# Altium schematic symbol library Component_Lib.SchLib: 12 symbols
Pins are listed as number, name and electrical type; pins without a type are passive.

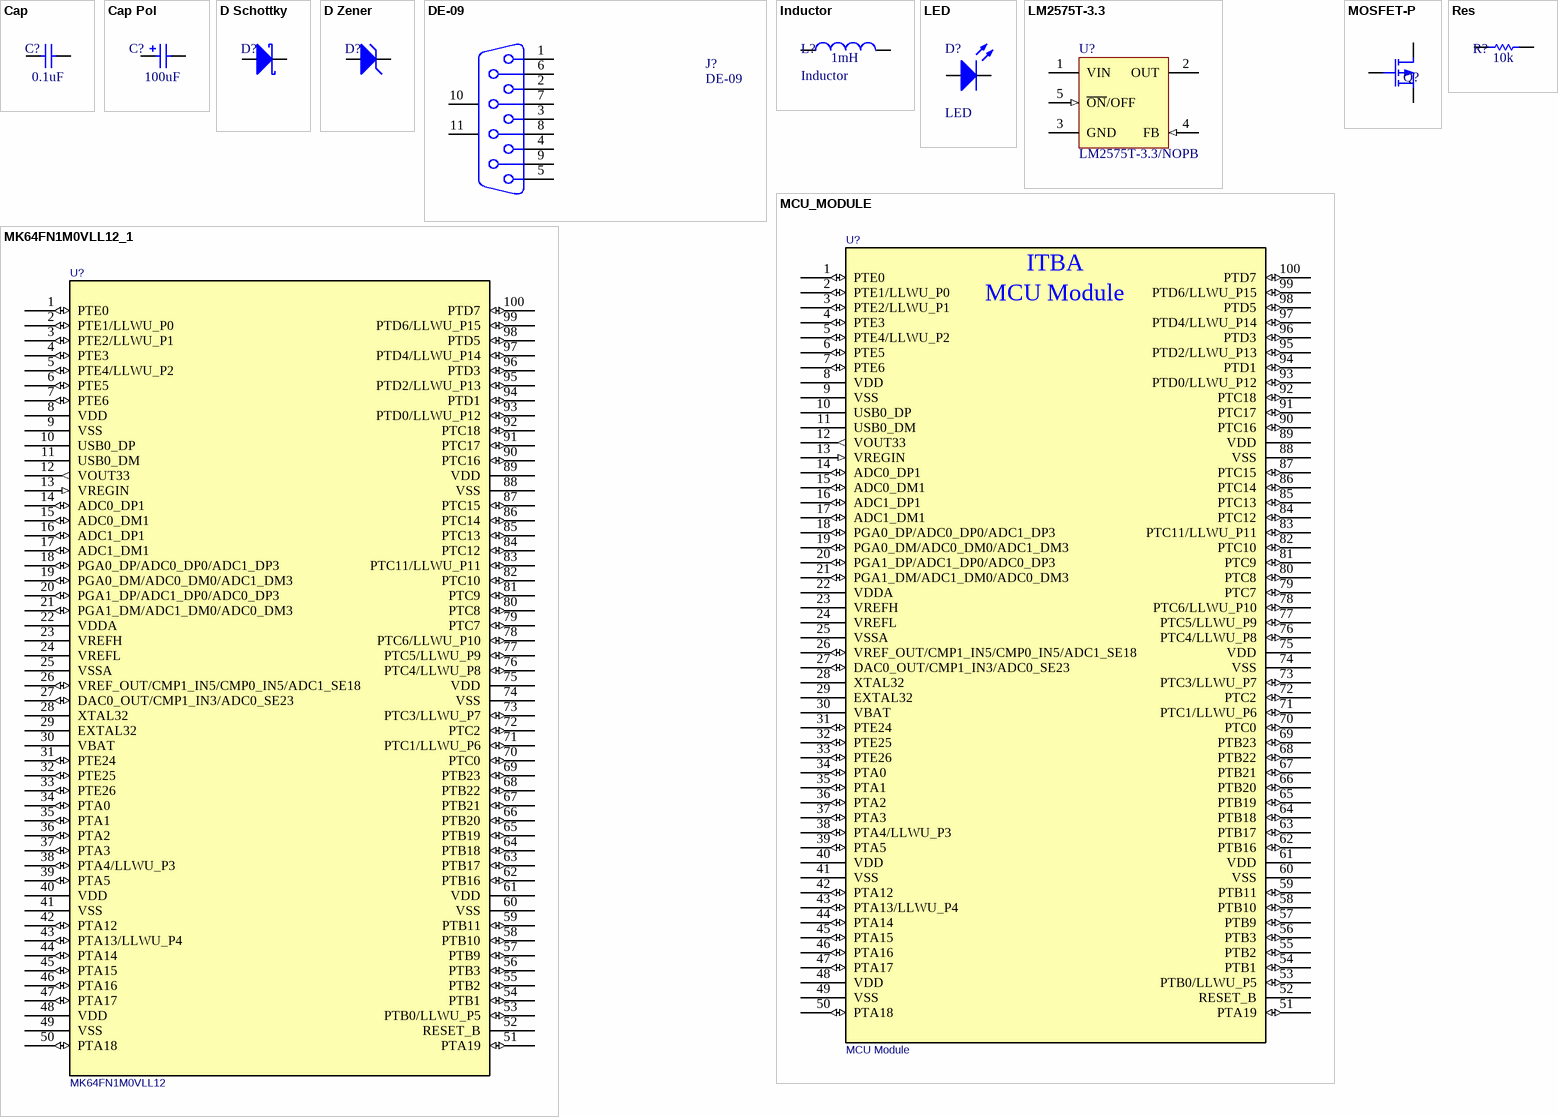
[diagram p0: symbols Cap to Res]

## Cap
designator C?  value 0.1uF  (hidden comment: Cap)
Capacitor; Published: 8-Jun-2000; LatestRevisionDate: 17-Jul-2002; LatestRevisionNote: Re-released for DXP Platform.; PackageReference: RAD-0.3; Publisher: Altium Limited; PackageDescription: Radial Cap, Thru-Hole; 2 Leads; 0.3 in Pin Spacing
footprint 0805 (Pasivo 0805)
simulation model CAP (Capacitor)
signal-integrity model Cap
pins: 1, 2

## Cap Pol
designator C?, comment value 100uF  (hidden comment: Cap)
Polarized Capacitor (Radial); Published: 8-Jun-2000; LatestRevisionDate: 17-Jul-2002; LatestRevisionNote: Re-released for DXP Platform.; PackageReference: RB7.6-15; Publisher: Altium Limited; PackageDescription: Polarized Capacitor (Radial); 2 Leads
simulation model CAP (Capacitor)
signal-integrity model Cap Pol
pins: 1, 2
1 alternate drawing of the same symbol

## D Schottky
designator D?
Schottky Diode; Published: 8-Jun-2000; LatestRevisionDate: 17-Jul-2002; LatestRevisionNote: Re-released for DXP Platform.; PackageReference: SMB; Publisher: Altium Limited; PackageDescription: DO-214-AA/SMB; 2 C-Bend Leads; Body 5.3 x 3.6 mm, inc. leads (LxW); Code_JEDEC: DO-214-AA
simulation model SKYDIODE (Diode)
signal-integrity model D Schottky
pins: 1 A, 2 K

## D Zener
designator D?
Zener Diode; Published: 8-Jun-2000; LatestRevisionDate: 17-Jul-2002; LatestRevisionNote: Re-released for DXP Platform.; PackageReference: DIODE-0.7; Publisher: Altium Limited; PackageDescription: Diode, Thru-Hole; 2 Leads; 0.7 in Pin Spacing
simulation model ZENER (Diode)
signal-integrity model D Zener
pins: 1 A, 2 K

## DE-09
designator J?
Receptacle Assembly, 9 Position, Right Angle; PackageDocument: O; Positions: 9; Published: 15-Jun-2001; LatestRevisionDate: 17-Jul-2002; LatestRevisionNote: Re-released for DXP Platform.; DatasheetDocument: 1-Sep-1999; PackageReference: 788750; Publisher: Altium Limited; Orientation: Right Angle; Gender: Receptacle
signal-integrity model Connector
pins: 1, 2, 3, 4, 5, 6, 7, 8, 9, 10 MH1, 11 MH2

## Inductor
designator L?  value 1mH
Code_IEC: 1005; Published: 8-Jun-2000; LatestRevisionDate: 29-May-2009; LatestRevisionNote: IPC-7351 Footprint Added.; PackageReference: 0402-A; Publisher: Altium Limited; PackageDescription: Chip Inductor; Code_JEITA: 0402
simulation model INDUCTOR (Inductor)
signal-integrity model Inductor
pins: 1, 2

## LED
designator D?
Published: 8-Jun-2000; LatestRevisionDate: 08-Jul-2005; LatestRevisionNote: Mech Layer 1 removed.; PackageReference: LED-0; Publisher: Altium Limited; PackageDescription: LED; 2 Leads
footprint LED0805 (LED SMD 0805)
simulation model LED0 (Diode)
pins: 1 A, 2 K

## LM2575T-3.3
designator U?, comment LM2575T-3.3/NOPB
SIMPLE SWITCHER® 1A Step-Down Voltage Regulator, 5-pin TO-220, Pb-Free; Manufacturer: Texas Instruments; Manufacturer: TI National Semiconductor; PackageTopMarking: NSUZXYTTE#*LM2575T*-3.3 P+; PowerWise: N; PackageReference: KC0005A; PinCount: 5; CompType: Switcher; Code_JEDEC: TO-220-AB; RoHS: Y; ComponentLink1URL: http://www.ti.com/general/docs/lit/getliterature.tsp?genericPartNumber=LM2575-N&fileType=pdf; PackageDescription: TO-220, Molded, 5 Lead, Straight; ComponentLink1Description: Datasheet URL; Manufacturer Part Number: LM2575T-3.3/NOPB
pins: 1 VIN (power), 2 OUT (power), 3 GND (power), 4 FB (in), 5 ~{ON}/OFF (in)

## MCU_MODULE
designator U?, comment MCU Module
ITBA Microcontroller module; FP_DESC: LQFP100; MFG: NXP; MFG_PN: MK64FN1M0VLL12; Footprint Checked: Assign OK, Footprint OK
footprint MCU_Module
pins: 1 PTE0 (io), 2 PTE1/LLWU_P0 (io), 3 PTE2/LLWU_P1 (io), 4 PTE3 (io), 5 PTE4/LLWU_P2 (io), 6 PTE5 (io), 7 PTE6 (io), 8 VDD (power), 9 VSS (power), 10 USB0_DP, 11 USB0_DM, 12 VOUT33 (out), 13 VREGIN (in), 14 ADC0_DP1 (io), 15 ADC0_DM1 (io), 16 ADC1_DP1 (io), 17 ADC1_DM1 (io), 18 PGA0_DP/ADC0_DP0/ADC1_DP3 (io), 19 PGA0_DM/ADC0_DM0/ADC1_DM3 (io), 20 PGA1_DP/ADC1_DP0/ADC0_DP3 (io), 21 PGA1_DM/ADC1_DM0/ADC0_DM3 (io), 22 VDDA (power), 23 VREFH (power), 24 VREFL (power), 25 VSSA (power), 26 VREF_OUT/CMP1_IN5/CMP0_IN5/ADC1_SE18 (io), 27 DAC0_OUT/CMP1_IN3/ADC0_SE23 (io), 28 XTAL32, 29 EXTAL32, 30 VBAT (power), 31 PTE24 (io), 32 PTE25 (io), 33 PTE26 (io), 34 PTA0 (io), 35 PTA1 (io), 36 PTA2 (io), 37 PTA3 (io), 38 PTA4/LLWU_P3 (io), 39 PTA5 (io), 40 VDD (power), 41 VSS (power), 42 PTA12 (io), 43 PTA13/LLWU_P4 (io), 44 PTA14 (io), 45 PTA15 (io), 46 PTA16 (io), 47 PTA17 (io), 48 VDD (power), 49 VSS (power), 50 PTA18 (io), 51 PTA19 (io), 52 RESET_B, 53 PTB0/LLWU_P5 (io), 54 PTB1 (io), 55 PTB2 (io), 56 PTB3 (io), 57 PTB9 (io), 58 PTB10 (io), 59 PTB11 (io), 60 VSS (power), 61 VDD (power), 62 PTB16 (io), 63 PTB17 (io), 64 PTB18 (io), 65 PTB19 (io), 66 PTB20 (io), 67 PTB21 (io), 68 PTB22 (io), 69 PTB23 (io), 70 PTC0 (io), 71 PTC1/LLWU_P6 (io), 72 PTC2 (io), 73 PTC3/LLWU_P7 (io), 74 VSS (power), 75 VDD (power), 76 PTC4/LLWU_P8 (io), 77 PTC5/LLWU_P9 (io), 78 PTC6/LLWU_P10 (io), 79 PTC7 (io), 80 PTC8 (io), 81 PTC9 (io), 82 PTC10 (io), 83 PTC11/LLWU_P11 (io), 84 PTC12 (io), 85 PTC13 (io), 86 PTC14 (io), 87 PTC15 (io), 88 VSS (power), 89 VDD (power), 90 PTC16 (io), 91 PTC17 (io), 92 PTC18 (io), 93 PTD0/LLWU_P12 (io), 94 PTD1 (io), 95 PTD2/LLWU_P13 (io), 96 PTD3 (io), 97 PTD4/LLWU_P14 (io), 98 PTD5 (io), 99 PTD6/LLWU_P15 (io), 100 PTD7 (io)
text: ITBA

## MK64FN1M0VLL12_1
designator U?, comment MK64FN1M0VLL12
120 MHz ARM Cortex®-M4-based Microcontroller with FPU; FP_DESC: LQFP100; MFG: NXP; Footprint Checked: Assign OK, Footprint OK; MFG_PN: MK64FN1M0VLL12
footprint QFP50P1600X1600X160-100N (QFP,0.50mm pitch,square;100 pin,14.00mm L X 14.00mm W X 1.60mm H body)
pins: 1 PTE0 (io), 2 PTE1/LLWU_P0 (io), 3 PTE2/LLWU_P1 (io), 4 PTE3 (io), 5 PTE4/LLWU_P2 (io), 6 PTE5 (io), 7 PTE6 (io), 8 VDD (power), 9 VSS (power), 10 USB0_DP, 11 USB0_DM, 12 VOUT33 (out), 13 VREGIN (in), 14 ADC0_DP1 (io), 15 ADC0_DM1 (io), 16 ADC1_DP1 (io), 17 ADC1_DM1 (io), 18 PGA0_DP/ADC0_DP0/ADC1_DP3 (io), 19 PGA0_DM/ADC0_DM0/ADC1_DM3 (io), 20 PGA1_DP/ADC1_DP0/ADC0_DP3 (io), 21 PGA1_DM/ADC1_DM0/ADC0_DM3 (io), 22 VDDA (power), 23 VREFH (power), 24 VREFL (power), 25 VSSA (power), 26 VREF_OUT/CMP1_IN5/CMP0_IN5/ADC1_SE18 (io), 27 DAC0_OUT/CMP1_IN3/ADC0_SE23 (io), 28 XTAL32, 29 EXTAL32, 30 VBAT (power), 31 PTE24 (io), 32 PTE25 (io), 33 PTE26 (io), 34 PTA0 (io), 35 PTA1 (io), 36 PTA2 (io), 37 PTA3 (io), 38 PTA4/LLWU_P3 (io), 39 PTA5 (io), 40 VDD (power), 41 VSS (power), 42 PTA12 (io), 43 PTA13/LLWU_P4 (io), 44 PTA14 (io), 45 PTA15 (io), 46 PTA16 (io), 47 PTA17 (io), 48 VDD (power), 49 VSS (power), 50 PTA18 (io), 51 PTA19 (io), 52 RESET_B, 53 PTB0/LLWU_P5 (io), 54 PTB1 (io), 55 PTB2 (io), 56 PTB3 (io), 57 PTB9 (io), 58 PTB10 (io), 59 PTB11 (io), 60 VSS (power), 61 VDD (power), 62 PTB16 (io), 63 PTB17 (io), 64 PTB18 (io), 65 PTB19 (io), 66 PTB20 (io), 67 PTB21 (io), 68 PTB22 (io), 69 PTB23 (io), 70 PTC0 (io), 71 PTC1/LLWU_P6 (io), 72 PTC2 (io), 73 PTC3/LLWU_P7 (io), 74 VSS (power), 75 VDD (power), 76 PTC4/LLWU_P8 (io), 77 PTC5/LLWU_P9 (io), 78 PTC6/LLWU_P10 (io), 79 PTC7 (io), 80 PTC8 (io), 81 PTC9 (io), 82 PTC10 (io), 83 PTC11/LLWU_P11 (io), 84 PTC12 (io), 85 PTC13 (io), 86 PTC14 (io), 87 PTC15 (io), 88 VSS (power), 89 VDD (power), 90 PTC16 (io), 91 PTC17 (io), 92 PTC18 (io), 93 PTD0/LLWU_P12 (io), 94 PTD1 (io), 95 PTD2/LLWU_P13 (io), 96 PTD3 (io), 97 PTD4/LLWU_P14 (io), 98 PTD5 (io), 99 PTD6/LLWU_P15 (io), 100 PTD7 (io)

## MOSFET-P
designator Q?  (value not drawn)
P-Channel MOSFET; Published: 8-Jun-2000; LatestRevisionDate: 17-Jul-2002; LatestRevisionNote: Re-released for DXP Platform.; PackageVersion: 1995/1996; PackageReference: E3; Publisher: Altium Limited; PackageDescription: TO, Flat Index; 3 In-Line, Axial Leads; Body Dia. 4.6mm; Lead Dia. 0.5 mm (max)
simulation model PMOS (MOSFET-P)
pins: 1 D, 2 G, 3 S

## Res
designator R?  value 10k  (hidden comment: Res)
Resistor; Published: 8-Jun-2000; LatestRevisionDate: 17-Jul-2002; LatestRevisionNote: Re-released for DXP Platform.; PackageReference: AXIAL-0.3; Publisher: Altium Limited; PackageDescription: Axial Device, Thru-Hole; 2 Leads; 0.3 in Pin Spacing
footprint 0805 (Pasivo 0805)
simulation model RESISTOR (Resistor)
signal-integrity model Res
pins: 1, 2